# Altium footprint library SG__PCB_Unsorted.PcbLib: 113 footprints (part 7 of 8)
Each footprint in its own frame and in the unit in brackets; x right, y up, seen from the top. Pads: shape width x height; smd on the part's side, far side on the other; paste and mask are expansions set on the pad; w line width, h text height; cw(c..) or ccw(c..) is an arc to the next point about the centre after c.
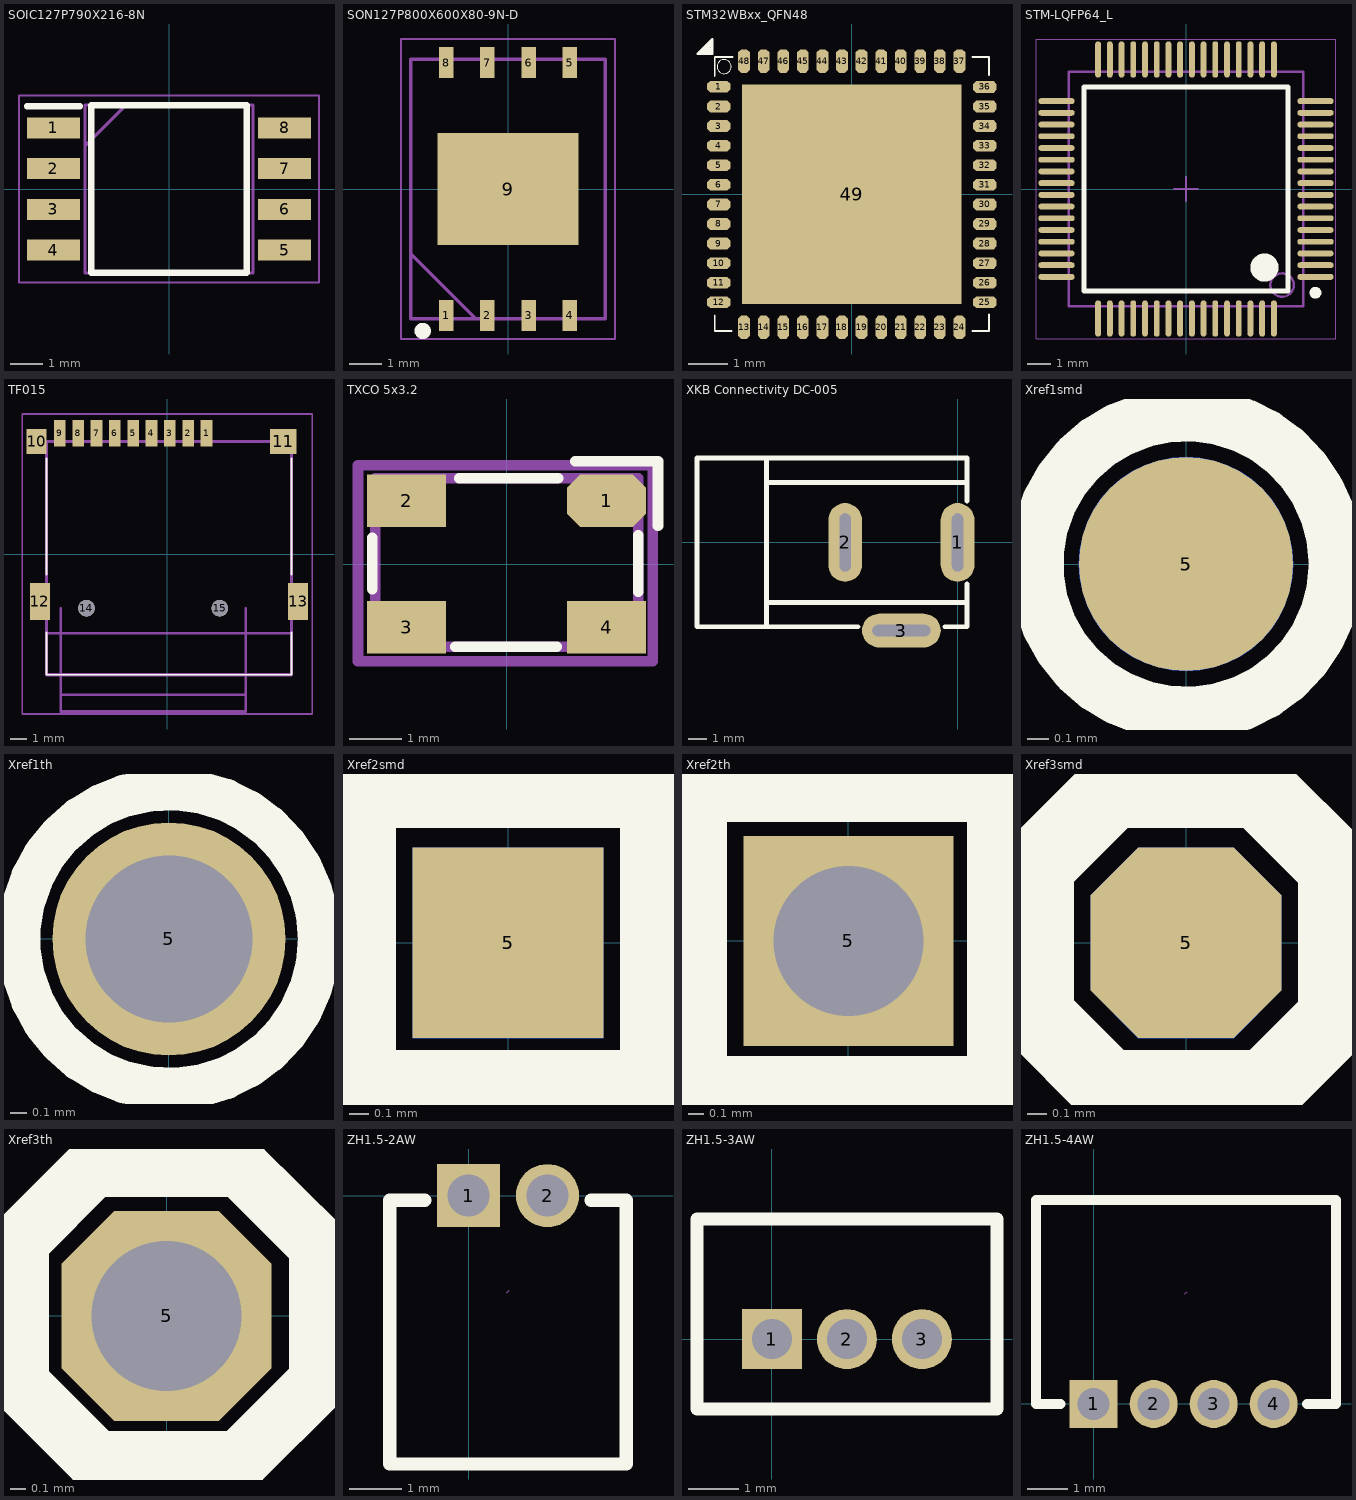
[diagram p6: the footprints below, top view; thin cyan lines are the x and y axes]

## SOIC127P790X216-8N [mm]
pads (8):
  rect 1.65x0.65 smd: 1(-3.6,1.905) 2(-3.6,0.635) 3(-3.6,-0.635) 4(-3.6,-1.905) 5(3.6,-1.905) 6(3.6,-0.635) 7(3.6,0.635) 8(3.6,1.905)
Top Overlay:
  lines w0.2: -4.425,2.58 -2.775,2.58 ; -2.425,-2.615 2.425,-2.615 2.425,2.615 -2.425,2.615 -2.425,-2.615
Mechanical 13:
  lines w0.1: -2.615,1.345 -1.345,2.615 ; -2.615,-2.615 2.615,-2.615 2.615,2.615 -2.615,2.615 -2.615,-2.615
Mechanical 15:
  lines w0.05: -4.675,-2.915 4.675,-2.915 4.675,2.915 -4.675,2.915 -4.675,-2.915
3D body "W25Q128JVSIQ.stp": height 2.16, standoff 0, extent -3.95,-2.615 3.95,2.615

## SON127P800X600X80-9N-D [mm]
pads (9):
  rect 0.45x0.95 smd: 1(-1.905,-3.9) 2(-0.635,-3.9) 3(0.635,-3.9) 4(1.905,-3.9) 5(1.905,3.9) 6(0.635,3.9) 7(-0.635,3.9) 8(-1.905,3.9)
  rect 4.35x3.45 smd: 9(0,0)
Top Overlay:
  circle w0.25: c-2.63,-4.375 r0.125
Mechanical 13:
  lines w0.1: -3,-2 -1,-4 ; -3,-4 -3,4 3,4 3,-4 -3,-4
Mechanical 15:
  lines w0.05: -3.3,-4.625 -3.3,4.625 3.3,4.625 3.3,-4.625 -3.3,-4.625
3D body "W25N01GVZEIG_TR.stp": height 0.8, standoff 0, extent -3,-4.05 3,4.05

## STM32WBxx_QFN48 [mm] "QFN48 7x7x0.55mm pitch 0.5mm"
height 0.55
pads (49):
  oct 0.6x0.3 smd mask+0.06: 1(-3.398,2.746) 2(-3.398,2.239) 3(-3.398,1.739) 4(-3.398,1.239) 5(-3.398,0.739) 6(-3.398,0.239) 7(-3.398,-0.261) 8(-3.398,-0.761) 9(-3.398,-1.261) 10(-3.398,-1.761) 11(-3.398,-2.261) 12(-3.398,-2.761) 25(3.398,-2.761) 26(3.398,-2.261) 27(3.398,-1.761) 28(3.398,-1.261) 29(3.398,-0.761) 30(3.398,-0.261) 31(3.398,0.239) 32(3.398,0.739) 33(3.398,1.239) 34(3.398,1.739) 35(3.398,2.239) 36(3.398,2.739)
  oct 0.3x0.6 smd mask+0.06: 13(-2.752,-3.399) 14(-2.252,-3.399) 15(-1.752,-3.399) 16(-1.252,-3.399) 17(-0.752,-3.399) 18(-0.252,-3.399) 19(0.248,-3.399) 20(0.748,-3.399) 21(1.248,-3.399) 22(1.748,-3.399) 23(2.248,-3.399) 24(2.748,-3.399) 37(2.748,3.399) 38(2.248,3.399) 39(1.748,3.399) 40(1.248,3.399) 41(0.748,3.399) 42(0.248,3.399) 43(-0.252,3.399) 44(-0.752,3.399) 45(-1.252,3.399) 46(-1.752,3.399) 47(-2.252,3.399) 48(-2.752,3.399)
  rect 5.6x5.6 smd paste-3 mask+0.08: 49(0,0)
Top Overlay:
  circle w0.025: c-3.263,3.258 r0.18
  lines w0.025: -3.502,-3.103 -3.502,-3.499 -3.079,-3.499 ; -3.502,3.489 -3.502,3.501 ; 3.077,3.501 3.498,3.501 ; 3.498,-3.499 3.498,-3.067
  lines w0.05: -3.59,3.684 -3.692,3.684 -3.615,3.659 -3.59,3.735 -3.793,3.634 -3.615,3.634 -3.59,3.583 -3.59,3.811 -3.768,3.608 -3.844,3.634 -3.565,3.888 -3.819,3.608 -3.895,3.608 -3.565,3.964 ; -3.502,-3.103 -3.502,-3.499 -3.079,-3.499 ; -3.502,3.019 -3.502,3.489 ; -3.502,3.501 -3.044,3.501 ; 3.077,-3.499 3.498,-3.499 3.498,-3.067 ; 3.077,3.501 3.498,3.501 3.498,3.044 ; -3.565,3.964 -3.565,3.583 -3.946,3.583 -3.565,3.964
Top Paste:
  rectangle: 1.091,-2.488 2.541,-1.038
  rectangle: -0.712,-2.488 0.738,-1.038
  rectangle: -2.492,-2.488 -1.042,-1.038
  rectangle: -2.492,-0.71 -1.042,0.74
  rectangle: -0.712,-0.71 0.738,0.74
  rectangle: 1.091,-0.71 2.541,0.74
  rectangle: -2.493,1.063 -1.043,2.513
  rectangle: -0.713,1.063 0.737,2.513
  rectangle: 1.091,1.063 2.541,2.513
3D body "User Library-QFN48_7x7.step": height 0.78, standoff -0.02, extent -3.511,-3.509 3.509,3.511

## STM-LQFP64_L [mm]
height 1
pads (64):
  oval 1.55x0.25 smd: 1(5.525,-3.75) 2(5.525,-3.25) 3(5.525,-2.75) 4(5.525,-2.25) 5(5.525,-1.75) 6(5.525,-1.25) 7(5.525,-0.75) 8(5.525,-0.25) 9(5.525,0.25) 10(5.525,0.75) 11(5.525,1.25) 12(5.525,1.75) 13(5.525,2.25) 14(5.525,2.75) 15(5.525,3.25) 16(5.525,3.75) 33(-5.525,3.75) 34(-5.525,3.25) 35(-5.525,2.75) 36(-5.525,2.25) 37(-5.525,1.75) 38(-5.525,1.25) 39(-5.525,0.75) 40(-5.525,0.25) 41(-5.525,-0.25) 42(-5.525,-0.75) 43(-5.525,-1.25) 44(-5.525,-1.75) 45(-5.525,-2.25) 46(-5.525,-2.75) 47(-5.525,-3.25) 48(-5.525,-3.75)
  oval 0.25x1.55 smd: 17(3.75,5.525) 18(3.25,5.525) 19(2.75,5.525) 20(2.25,5.525) 21(1.75,5.525) 22(1.25,5.525) 23(0.75,5.525) 24(0.25,5.525) 25(-0.25,5.525) 26(-0.75,5.525) 27(-1.25,5.525) 28(-1.75,5.525) 29(-2.25,5.525) 30(-2.75,5.525) 31(-3.25,5.525) 32(-3.75,5.525) 49(-3.75,-5.525) 50(-3.25,-5.525) 51(-2.75,-5.525) 52(-2.25,-5.525) 53(-1.75,-5.525) 54(-1.25,-5.525) 55(-0.75,-5.525) 56(-0.25,-5.525) 57(0.25,-5.525) 58(0.75,-5.525) 59(1.25,-5.525) 60(1.75,-5.525) 61(2.25,-5.525) 62(2.75,-5.525) 63(3.25,-5.525) 64(3.75,-5.525)
Top Overlay:
  circle w0.6: c3.35,-3.35 r0.3
  circle w0.25: c5.525,-4.425 r0.125
  lines w0.2: -4.35,-4.35 4.35,-4.35 4.35,4.35 -4.35,4.35 -4.35,-4.35
Mechanical 13:
  circle w0.1: c4.1,-4.1 r0.5
  lines w0.1: -5,-5 5,-5 5,5 -5,5 -5,-5
Mechanical 15:
  lines w0.05: -6.4,-6.4 6.4,-6.4 6.4,6.4 -6.4,6.4 -6.4,-6.4
  lines w0.1: -0.5,0 0.5,0 ; 0,-0.5 0,0.5
3D body: height 1.6, standoff 0.05, extent -5,-5 5,5

## TF015 [mm]
pads (15):
  rect 0.7x1.6 smd: 1(2.35,7.275) 2(1.25,7.275) 3(0.15,7.275) 4(-0.95,7.275) 5(-2.05,7.275) 6(-3.15,7.275) 7(-4.25,7.275) 8(-5.35,7.275) 9(-6.45,7.275)
  rect 1.2x1.5 smd: 10(-7.85,6.775)
  rect 1.6x1.5 smd: 11(6.95,6.775)
  rect 1.2x2.2 smd: 12(-7.65,-2.825) 13(7.85,-2.825)
  round 1 hole 1 unplated: 14(-4.85,-3.225) 15(3.15,-3.225)
Top Overlay:
  lines w0.1: -7.25,-4.685 -7.25,-7.225 7.45,-7.225 7.45,-4.685 ; -7.25,-1.225 -7.25,5.775 ; 7.45,-1.225 7.45,5.775
Assembly Top:
  lines w0.152: -7.25,-4.685 -7.21,-4.725 7.45,-4.725 ; -6.4,-8.425 4.7,-8.425 ; -6.4,-3.225 -6.4,-9.425 4.7,-9.425 4.7,-3.225
  lines w0.2: -7.25,-7.225 7.45,-7.225 7.45,6.775 -7.25,6.775 -7.25,-7.225
Courtyard Top:
  lines w0.1: -8.7,-9.575 8.7,-9.575 8.7,8.425 -8.7,8.425 -8.7,-9.575
3D body "xb-xktf-015-n.stp": height 2.1, standoff 0.1, extent -8.09,-7.275 8.09,7.475

## TXCO 5x3.2 [mm]
pads (4):
  oct 1.5x1 smd: 1(1.9,1.2)
  rect 1.5x1 smd: 2(-1.9,1.2) 3(-1.9,-1.2) 4(1.9,-1.2)
Top Overlay:
  lines w0.2: -2.55,-0.475 -2.55,0.5 ; -0.975,-1.575 0.95,-1.575 ; -0.9,1.625 0.975,1.625 ; 1.3,1.95 2.875,1.95 2.875,0.725 ; 2.5,-0.525 2.5,0.55
Assembly Top:
  lines w0.2: -2.5,-1.575 -2.5,1.625 2.5,1.625 2.5,-1.575 -2.5,-1.575
Courtyard Top:
  lines w0.2: -2.825,-1.85 -2.825,1.875 -2.775,1.875 2.775,1.875 2.775,-1.85 -2.825,-1.85
3D body "CRYSTALSMD5X32.step": height 1, standoff 0, extent -2.5,-1.575 2.5,1.625

## XKB Connectivity DC-005 [mm] "DC jack/socket,DC-005"
height 11
pads (3):
  oval 1.8x4.2 hole 0.6 slot 3.1 at 90 deg: 1(0,0) 2(-5.999,0)
  oval 4.2x1.8 hole 0.6 slot 3.1 at 0 deg: 3(-3,-4.7)
Top Overlay:
  lines w0.254: -10.199,-4.5 -10.199,4.5 ; -10.119,-3.2 0.501,-3.2 ; -10.119,3.2 0.501,3.2 ; -5.313,-4.5 -13.9,-4.5 -13.9,4.5 0.501,4.5 0.501,2.214 ; -0.687,-4.5 0.501,-4.5 0.501,-2.214
Mechanical 15:
  lines w0.003: -6.114,-0.475 -6.063,-0.424

## Xref1smd [mm]
pads (2):
  round 1 smd: 5(0,0)
  round 1 smd far side: 5(0,0)
Top Overlay:
  circle w0.254: c0,0 r0.7
Bottom Overlay:
  circle w0.254: c0,0 r0.7

## Xref1th [mm]
pads (1):
  round 1.4 hole 1 unplated: 5(0,0)
Top Overlay:
  circle w0.254: c0,0 r0.9
Bottom Overlay:
  circle w0.254: c0,0 r0.9

## Xref2smd [mm]
pads (2):
  rect 1x1 smd: 5(0,0)
  rect 1x1 smd far side: 5(0,0)
Top Overlay:
  lines w0.4: -0.787,-0.762 0.787,-0.762 0.787,0.803 -0.787,0.803 -0.787,-0.762
Bottom Overlay:
  lines w0.4: -0.787,-0.762 0.787,-0.762 0.787,0.803 -0.787,0.803 -0.787,-0.762

## Xref2th [mm]
pads (1):
  rect 1.4x1.4 hole 1 unplated: 5(0,0)
Top Overlay:
  lines w0.4: -1.009,-0.965 -1.009,0.991 0.991,0.991 0.991,-0.965 -1.009,-0.965
Bottom Overlay:
  lines w0.4: -1.009,-0.965 -1.009,0.991 0.991,0.991 0.991,-0.965 -1.009,-0.965

## Xref3smd [mm]
pads (2):
  oct 1x1 smd: 5(0,0)
  oct 1x1 smd far side: 5(0,0)
Top Overlay:
  lines w0.4: -0.787,-0.384 -0.787,0.404 -0.389,0.803 0.384,0.803 0.787,0.399 0.787,-0.392 0.418,-0.762 -0.409,-0.762 -0.787,-0.384
Bottom Overlay:
  lines w0.4: -0.787,-0.384 -0.409,-0.762 0.418,-0.762 0.787,-0.392 0.787,0.399 0.384,0.803 -0.389,0.803 -0.787,0.404 -0.787,-0.384

## Xref3th [mm]
pads (1):
  oct 1.4x1.4 hole 1 unplated: 5(0,0)
Top Overlay:
  lines w0.4: -0.984,-0.452 -0.47,-0.965 0.486,-0.965 1.016,-0.435 1.016,0.468 0.492,0.991 -0.491,0.991 -0.984,0.499 -0.984,-0.452
Bottom Overlay:
  lines w0.4: -0.984,-0.452 -0.984,0.499 -0.491,0.991 0.492,0.991 1.016,0.468 1.016,-0.435 0.486,-0.965 -0.47,-0.965 -0.984,-0.452

## ZH1.5-2AW [mm] "ZH Header Male Pin 1.50mm 3 Through Hole"
height 12
pads (2):
  rect 1.199x1.199 hole 0.8: 1(0,0)
  round 1.2 hole 0.8: 2(1.501,0)
Top Overlay:
  lines w0.254: -0.831,-0.088 -1.5,-0.088 -1.5,-5.1 3,-5.1 3,-0.088 2.328,-0.088
Mechanical 15:
  lines w0.003: 0.725,-1.845 0.775,-1.794

## ZH1.5-3AW [mm] "ZH Header Male Pin 1.50mm 3 Through Hole"
height 12
pads (3):
  rect 1.2x1.2 hole 0.8 mask+0.1: 1(0,0)
  round 1.2 hole 0.8 mask+0.1: 2(1.501,0) 3(3.001,0)
Top Overlay:
  lines w0.254: -1.498,-1.4 4.502,-1.4 4.502,2.4 -1.498,2.4 -1.498,-1.4

## ZH1.5-4AW [mm] "ZH Header Male Pin 1.50mm 4 Through Hole"
height 12
pads (4):
  rect 1.201x1.199 hole 0.8: 1(0,0)
  round 1.2 hole 0.8: 2(1.5,0) 3(3.001,0) 4(4.5,0)
Top Overlay:
  lines w0.254: -0.832,0 -1.44,0 -1.44,5.1 6.06,5.1 6.06,0 5.331,0
Mechanical 15:
  lines w0.003: 2.284,2.754 2.335,2.805